# Altium footprint library POWER.PcbLib: 1 footprints
Each footprint in its own frame and in the unit in brackets; x right, y up, seen from the top. Pads: shape width x height; smd on the part's side, far side on the other; paste and mask are expansions set on the pad; w line width, h text height; cw(c..) or ccw(c..) is an arc to the next point about the centre after c.
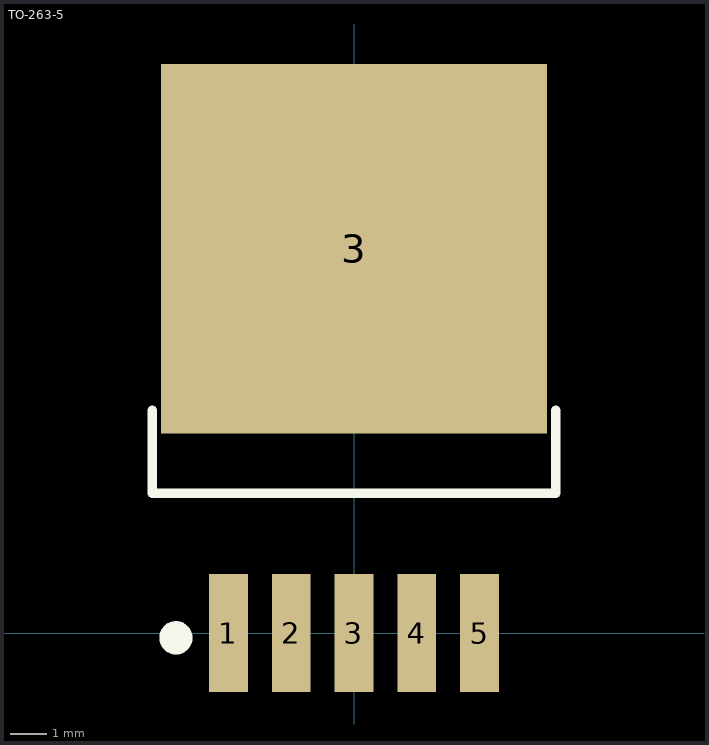
[diagram p0: the footprint, top view; thin cyan lines are the x and y axes]

## TO-263-5 [mm]
pads (6):
  rect 1.05x3.2 smd: 1(-3.4,0) 2(-1.7,0) 3(0,0) 4(1.7,0) 5(3.4,0)
  rect 10.45x10 smd: 3(0,10.414)
Top Overlay:
  circle w0.5: c-4.826,-0.127 r0.2
  lines w0.254: -5.461,6.037 -5.461,3.787 5.461,3.787 5.461,6.037
3D body: height 4.5, standoff 0, extent -5,-0.01 5,13.317